# Altium footprint library Inductor_SMD.PcbLib: 587 footprints (part 3 of 37)
Each footprint in its own frame and in the unit in brackets; x right, y up, seen from the top. Pads: shape width x height; smd on the part's side, far side on the other; paste and mask are expansions set on the pad; w line width, h text height; cw(c..) or ccw(c..) is an arc to the next point about the centre after c.
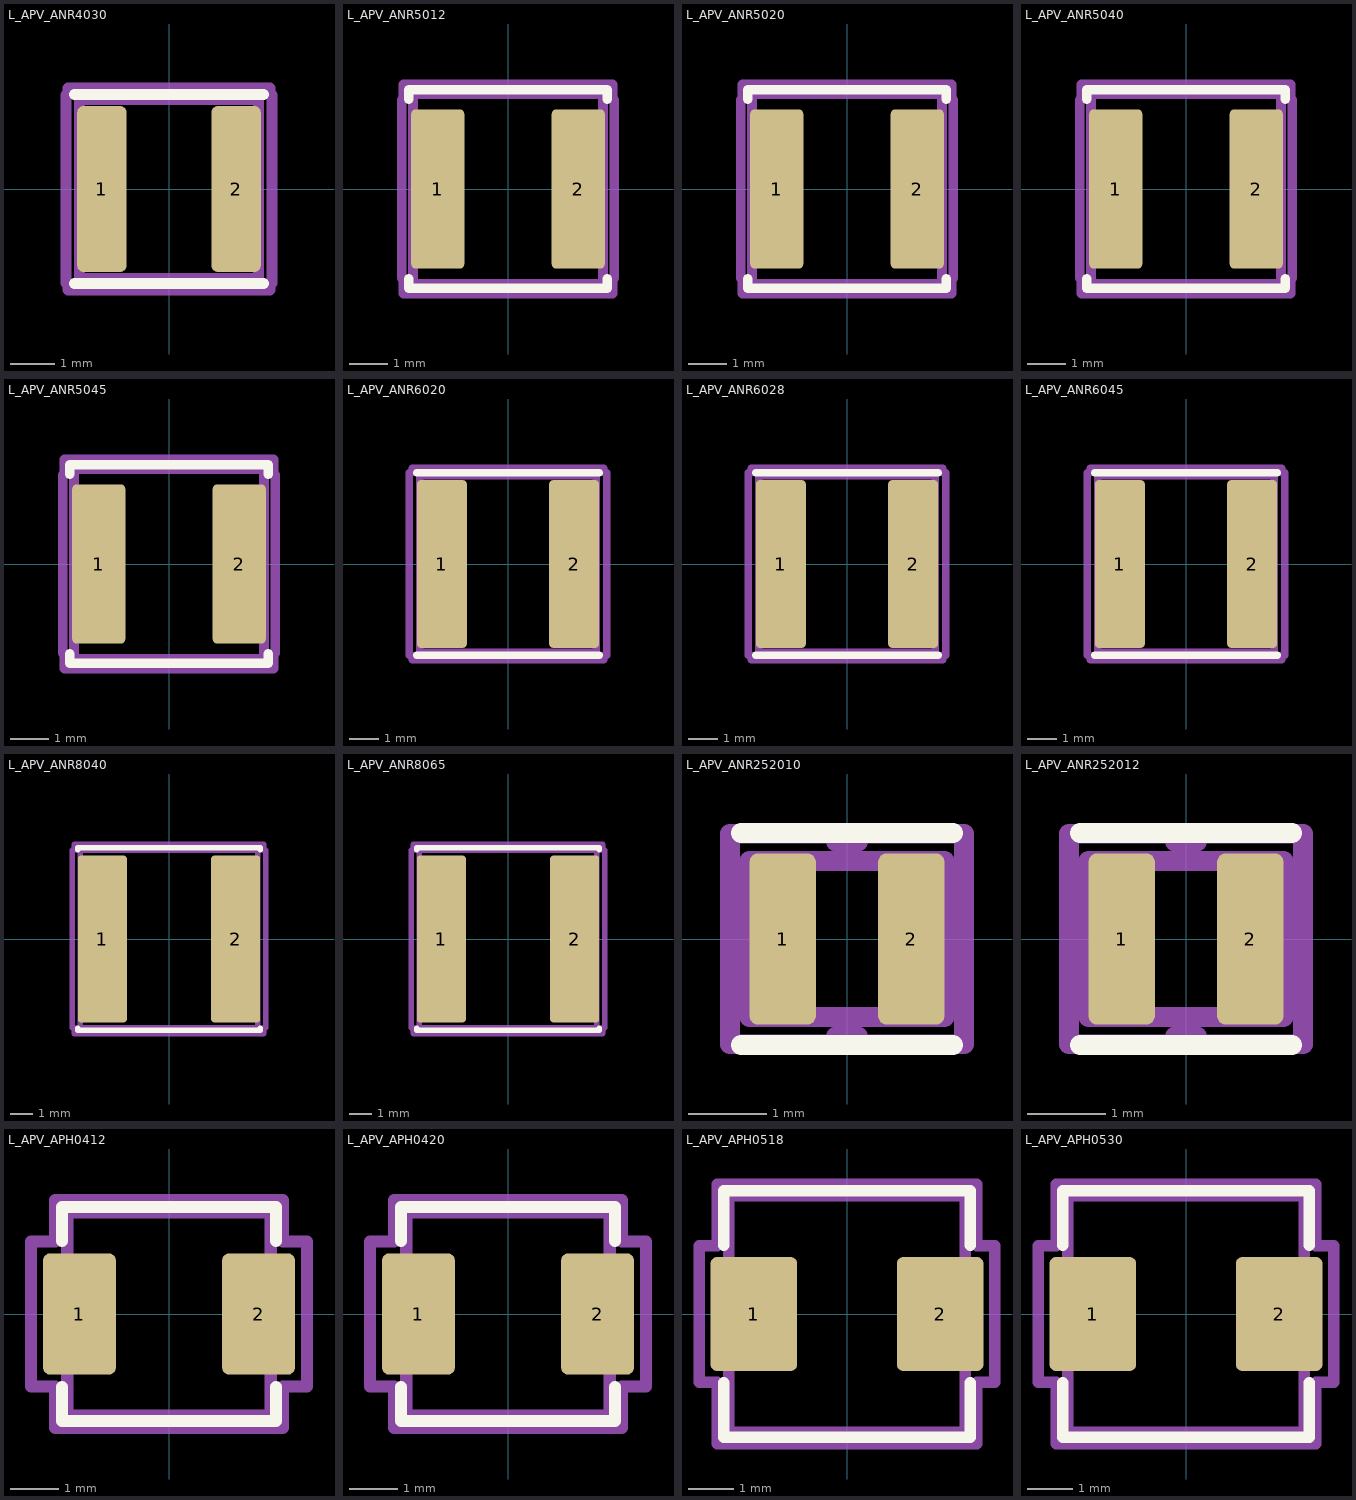
[diagram p2: the footprints below, top view; thin cyan lines are the x and y axes]

## L_APV_ANR4030 [mm] "L_APV_ANR4030"
pads (2):
  rrect23% 1.1x3.7 smd: 1(-1.5,0) 2(1.5,0)
F.SilkS:
  lines w0.254: -2.11,-2.11 2.11,-2.11 ; -2.11,2.11 2.11,2.11
Top Assembly:
  lines w0.254: -2,-2 2,-2 2,2 -2,2 -2,-2
Top Courtyard:
  lines w0.254: -2.3,-2.1 -2.25,-2.1 -2.25,-2.25 2.25,-2.25 2.25,-2.1 2.3,-2.1 2.3,2.1 2.25,2.1 2.25,2.25 -2.25,2.25 -2.25,2.1 -2.3,2.1 -2.3,-2.1
Top Designator:
  text ".Designator" at -3.434,-0.345 h1.52
3D body "L_APV_ANR4030.step": height 3, standoff 0, extent -2.01,-2 2.01,2

## L_APV_ANR5012 [mm] "L_APV_ANR5012"
pads (2):
  rrect18% 1.4x4.2 smd: 1(-1.85,0) 2(1.85,0)
F.SilkS:
  lines w0.254: -2.61,-2.36 -2.61,-2.61 2.61,-2.61 2.61,-2.36 ; -2.61,2.36 -2.61,2.61 2.61,2.61 2.61,2.36
Top Assembly:
  lines w0.254: -2.5,-2.5 2.5,-2.5 2.5,2.5 -2.5,2.5 -2.5,-2.5
Top Courtyard:
  lines w0.254: -2.8,-2.35 -2.75,-2.35 -2.75,-2.75 2.75,-2.75 2.75,-2.35 2.8,-2.35 2.8,2.35 2.75,2.35 2.75,2.75 -2.75,2.75 -2.75,2.35 -2.8,2.35 -2.8,-2.35
Top Designator:
  text ".Designator" at -3.434,-0.345 h1.52
3D body "L_APV_ANR5012.step": height 1.2, standoff 0, extent -2.51,-2.5 2.51,2.5

## L_APV_ANR5020 [mm] "L_APV_ANR5020"
pads (2):
  rrect18% 1.4x4.2 smd: 1(-1.85,0) 2(1.85,0)
F.SilkS:
  lines w0.254: -2.61,-2.36 -2.61,-2.61 2.61,-2.61 2.61,-2.36 ; -2.61,2.36 -2.61,2.61 2.61,2.61 2.61,2.36
Top Assembly:
  lines w0.254: -2.5,-2.5 2.5,-2.5 2.5,2.5 -2.5,2.5 -2.5,-2.5
Top Courtyard:
  lines w0.254: -2.8,-2.35 -2.75,-2.35 -2.75,-2.75 2.75,-2.75 2.75,-2.35 2.8,-2.35 2.8,2.35 2.75,2.35 2.75,2.75 -2.75,2.75 -2.75,2.35 -2.8,2.35 -2.8,-2.35
Top Designator:
  text ".Designator" at -3.434,-0.345 h1.52
3D body "L_APV_ANR5020.step": height 2, standoff 0, extent -2.51,-2.5 2.51,2.5

## L_APV_ANR5040 [mm] "L_APV_ANR5040"
pads (2):
  rrect18% 1.4x4.2 smd: 1(-1.85,0) 2(1.85,0)
F.SilkS:
  lines w0.254: -2.61,-2.36 -2.61,-2.61 2.61,-2.61 2.61,-2.36 ; -2.61,2.36 -2.61,2.61 2.61,2.61 2.61,2.36
Top Assembly:
  lines w0.254: -2.5,-2.5 2.5,-2.5 2.5,2.5 -2.5,2.5 -2.5,-2.5
Top Courtyard:
  lines w0.254: -2.8,-2.35 -2.75,-2.35 -2.75,-2.75 2.75,-2.75 2.75,-2.35 2.8,-2.35 2.8,2.35 2.75,2.35 2.75,2.75 -2.75,2.75 -2.75,2.35 -2.8,2.35 -2.8,-2.35
Top Designator:
  text ".Designator" at -3.434,-0.345 h1.52
3D body "L_APV_ANR5040.step": height 4, standoff 0, extent -2.51,-2.5 2.51,2.5

## L_APV_ANR5045 [mm] "L_APV_ANR5045"
pads (2):
  rrect18% 1.4x4.2 smd: 1(-1.85,0) 2(1.85,0)
F.SilkS:
  lines w0.254: -2.61,-2.36 -2.61,-2.61 2.61,-2.61 2.61,-2.36 ; -2.61,2.36 -2.61,2.61 2.61,2.61 2.61,2.36
Top Assembly:
  lines w0.254: -2.5,-2.5 2.5,-2.5 2.5,2.5 -2.5,2.5 -2.5,-2.5
Top Courtyard:
  lines w0.254: -2.8,-2.35 -2.75,-2.35 -2.75,-2.75 2.75,-2.75 2.75,-2.35 2.8,-2.35 2.8,2.35 2.75,2.35 2.75,2.75 -2.75,2.75 -2.75,2.35 -2.8,2.35 -2.8,-2.35
Top Designator:
  text ".Designator" at -3.584,-0.345 h1.52
3D body "L_APV_ANR5045.step": height 4.5, standoff 0, extent -2.51,-2.5 2.51,2.5

## L_APV_ANR6020 [mm] "L_APV_ANR6020"
pads (2):
  rrect15% 1.7x5.7 smd: 1(-2.25,0) 2(2.25,0)
F.SilkS:
  lines w0.254: -3.11,-3.11 3.11,-3.11 ; -3.11,3.11 3.11,3.11
Top Assembly:
  lines w0.254: -3,-3 3,-3 3,3 -3,3 -3,-3
Top Courtyard:
  lines w0.254: -3.35,-3.1 -3.25,-3.1 -3.25,-3.25 3.25,-3.25 3.25,-3.1 3.35,-3.1 3.35,3.1 3.25,3.1 3.25,3.25 -3.25,3.25 -3.25,3.1 -3.35,3.1 -3.35,-3.1
Top Designator:
  text ".Designator" at -3.434,-0.345 h1.52
3D body "L_APV_ANR6020.step": height 2, standoff 0, extent -3.01,-3 3.01,3

## L_APV_ANR6028 [mm] "L_APV_ANR6028"
pads (2):
  rrect15% 1.7x5.7 smd: 1(-2.25,0) 2(2.25,0)
F.SilkS:
  lines w0.254: -3.11,-3.11 3.11,-3.11 ; -3.11,3.11 3.11,3.11
Top Assembly:
  lines w0.254: -3,-3 -3,3 3,3 3,-3 -3,-3
Top Courtyard:
  lines w0.254: -3.35,-3.1 -3.35,3.1 -3.25,3.1 -3.25,3.25 3.25,3.25 3.25,3.1 3.35,3.1 3.35,-3.1 3.25,-3.1 3.25,-3.25 -3.25,-3.25 -3.25,-3.1 -3.35,-3.1
Top Designator:
  text ".Designator" at -3.434,-0.345 h1.52
3D body "L_APV_ANR6028.step": height 2.8, standoff 0, extent -3.01,-3 3.01,3

## L_APV_ANR6045 [mm] "L_APV_ANR6045"
pads (2):
  rrect15% 1.7x5.7 smd: 1(-2.25,0) 2(2.25,0)
F.SilkS:
  lines w0.254: -3.11,-3.11 3.11,-3.11 ; -3.11,3.11 3.11,3.11
Top Assembly:
  lines w0.254: -3,-3 -3,3 3,3 3,-3 -3,-3
Top Courtyard:
  lines w0.254: -3.35,-3.1 -3.35,3.1 -3.25,3.1 -3.25,3.25 3.25,3.25 3.25,3.1 3.35,3.1 3.35,-3.1 3.25,-3.1 3.25,-3.25 -3.25,-3.25 -3.25,-3.1 -3.35,-3.1
Top Designator:
  text ".Designator" at -3.434,-0.345 h1.52
3D body "L_APV_ANR6045.step": height 4.5, standoff 0, extent -3.01,-3 3.01,3

## L_APV_ANR8040 [mm] "L_APV_ANR8040"
pads (2):
  rrect11% 2.2x7.5 smd: 1(-3,0) 2(3,0)
F.SilkS:
  lines w0.254: -4.11,-4.01 -4.11,-4.11 4.11,-4.11 4.11,-4.01 ; -4.11,4.01 -4.11,4.11 4.11,4.11 4.11,4.01
Top Assembly:
  lines w0.254: -4,-4 4,-4 4,4 -4,4 -4,-4
Top Courtyard:
  lines w0.254: -4.35,-4 -4.25,-4 -4.25,-4.25 4.25,-4.25 4.25,-4 4.35,-4 4.35,4 4.25,4 4.25,4.25 -4.25,4.25 -4.25,4 -4.35,4 -4.35,-4
Top Designator:
  text ".Designator" at -3.434,-0.345 h1.52
3D body "L_APV_ANR8040.step": height 4.2, standoff 0, extent -4.01,-4 4.01,4

## L_APV_ANR8065 [mm] "L_APV_ANR8065"
pads (2):
  rrect11% 2.2x7.5 smd: 1(-3,0) 2(3,0)
F.SilkS:
  lines w0.254: -4.11,-4.01 -4.11,-4.11 4.11,-4.11 4.11,-4.01 ; -4.11,4.01 -4.11,4.11 4.11,4.11 4.11,4.01
Top Assembly:
  lines w0.254: -4,-4 4,-4 4,4 -4,4 -4,-4
Top Courtyard:
  lines w0.254: -4.35,-4 -4.25,-4 -4.25,-4.25 4.25,-4.25 4.25,-4 4.35,-4 4.35,4 4.25,4 4.25,4.25 -4.25,4.25 -4.25,4 -4.35,4 -4.35,-4
Top Designator:
  text ".Designator" at -3.434,-0.345 h1.52
3D body "L_APV_ANR8065.step": height 6.5, standoff 0, extent -4.01,-4 4.01,4

## L_APV_ANR252010 [mm] "L_APV_ANR252010"
pads (2):
  rrect25% 0.85x2.2 smd: 1(-0.825,0) 2(0.825,0)
F.SilkS:
  lines w0.254: -1.36,-1.36 1.36,-1.36 ; -1.36,1.36 1.36,1.36
Top Assembly:
  lines w0.254: -1.25,-1 -1.25,1 1.25,1 1.25,-1 -1.25,-1
Top Courtyard:
  lines w0.254: -1.5,-1.35 -1.5,1.35 -0.14,1.35 -0.14,1.25 0.14,1.25 0.14,1.35 1.5,1.35 1.5,-1.35 0.14,-1.35 0.14,-1.25 -0.14,-1.25 -0.14,-1.35 -1.5,-1.35
Top Designator:
  text ".Designator" at -2.253,-0.227 h1
3D body "L_APV_ANR252010.step": height 1, standoff 0, extent -1.26,-1 1.26,1

## L_APV_ANR252012 [mm] "L_APV_ANR252012"
pads (2):
  rrect25% 0.85x2.2 smd: 1(-0.825,0) 2(0.825,0)
F.SilkS:
  lines w0.254: -1.36,-1.36 1.36,-1.36 ; -1.36,1.36 1.36,1.36
Top Assembly:
  lines w0.254: -1.25,-1 1.25,-1 1.25,1 -1.25,1 -1.25,-1
Top Courtyard:
  lines w0.254: -1.5,-1.35 -0.14,-1.35 -0.14,-1.25 0.14,-1.25 0.14,-1.35 1.5,-1.35 1.5,1.35 0.14,1.35 0.14,1.25 -0.14,1.25 -0.14,1.35 -1.5,1.35 -1.5,-1.35
Top Designator:
  text ".Designator" at -2.253,-0.227 h1
3D body "L_APV_ANR252012.step": height 1.2, standoff 0, extent -1.26,-1 1.26,1

## L_APV_APH0412 [mm] "L_APV_APH0412"
pads (2):
  rrect17% 1.5x2.5 smd: 1(-1.85,0) 2(1.85,0)
F.SilkS:
  lines w0.254: -2.21,-1.51 -2.21,-2.21 2.21,-2.21 2.21,-1.51 ; -2.21,1.51 -2.21,2.21 2.21,2.21 2.21,1.51
Top Assembly:
  lines w0.254: -2.1,-2.1 -2.1,2.1 2.1,2.1 2.1,-2.1 -2.1,-2.1
Top Courtyard:
  lines w0.254: -2.85,-1.5 -2.85,1.5 -2.35,1.5 -2.35,2.35 2.35,2.35 2.35,1.5 2.85,1.5 2.85,-1.5 2.35,-1.5 2.35,-2.35 -2.35,-2.35 -2.35,-1.5 -2.85,-1.5
Top Designator:
  text ".Designator" at -3.434,-0.345 h1.52
3D body "L_APV_APH0412.step": height 1, standoff 0, extent -2.21,-2.1 2.21,2.1

## L_APV_APH0420 [mm] "L_APV_APH0420"
pads (2):
  rrect17% 1.5x2.5 smd: 1(-1.85,0) 2(1.85,0)
F.SilkS:
  lines w0.254: -2.21,-1.51 -2.21,-2.21 2.21,-2.21 2.21,-1.51 ; -2.21,1.51 -2.21,2.21 2.21,2.21 2.21,1.51
Top Assembly:
  lines w0.254: -2.1,-2.1 -2.1,2.1 2.1,2.1 2.1,-2.1 -2.1,-2.1
Top Courtyard:
  lines w0.254: -2.85,-1.5 -2.85,1.5 -2.35,1.5 -2.35,2.35 2.35,2.35 2.35,1.5 2.85,1.5 2.85,-1.5 2.35,-1.5 2.35,-2.35 -2.35,-2.35 -2.35,-1.5 -2.85,-1.5
Top Designator:
  text ".Designator" at -3.434,-0.345 h1.52
3D body "L_APV_APH0420.step": height 1.8, standoff 0, extent -2.21,-2.1 2.21,2.1

## L_APV_APH0518 [mm] "L_APV_APH0518"
pads (2):
  rrect13% 1.9x2.5 smd: 1(-2.05,0) 2(2.05,0)
F.SilkS:
  lines w0.254: -2.71,-1.51 -2.71,-2.71 2.71,-2.71 2.71,-1.51 ; -2.71,1.51 -2.71,2.71 2.71,2.71 2.71,1.51
Top Assembly:
  lines w0.254: -2.6,-2.6 2.6,-2.6 2.6,2.6 -2.6,2.6 -2.6,-2.6
Top Courtyard:
  lines w0.254: -3.25,-1.5 -2.85,-1.5 -2.85,-2.85 2.85,-2.85 2.85,-1.5 3.25,-1.5 3.25,1.5 2.85,1.5 2.85,2.85 -2.85,2.85 -2.85,1.5 -3.25,1.5 -3.25,-1.5
Top Designator:
  text ".Designator" at -3.434,-0.345 h1.52
3D body "L_APV_APH0518.step": height 1.6, standoff 0, extent -2.71,-2.6 2.71,2.6

## L_APV_APH0530 [mm] "L_APV_APH0530"
pads (2):
  rrect13% 1.9x2.5 smd: 1(-2.05,0) 2(2.05,0)
F.SilkS:
  lines w0.254: -2.71,-1.51 -2.71,-2.71 2.71,-2.71 2.71,-1.51 ; -2.71,1.51 -2.71,2.71 2.71,2.71 2.71,1.51
Top Assembly:
  lines w0.254: -2.6,-2.6 -2.6,2.6 2.6,2.6 2.6,-2.6 -2.6,-2.6
Top Courtyard:
  lines w0.254: -3.25,-1.5 -3.25,1.5 -2.85,1.5 -2.85,2.85 2.85,2.85 2.85,1.5 3.25,1.5 3.25,-1.5 2.85,-1.5 2.85,-2.85 -2.85,-2.85 -2.85,-1.5 -3.25,-1.5
Top Designator:
  text ".Designator" at -3.434,-0.345 h1.52
3D body "L_APV_APH0530.step": height 2.8, standoff 0, extent -2.71,-2.6 2.71,2.6